# Altium footprint library recall.PcbLib: 36 footprints (part 3 of 3)
Each footprint in its own frame and in the unit in brackets; x right, y up, seen from the top. Pads: shape width x height; smd on the part's side, far side on the other; paste and mask are expansions set on the pad; w line width, h text height; cw(c..) or ccw(c..) is an arc to the next point about the centre after c.
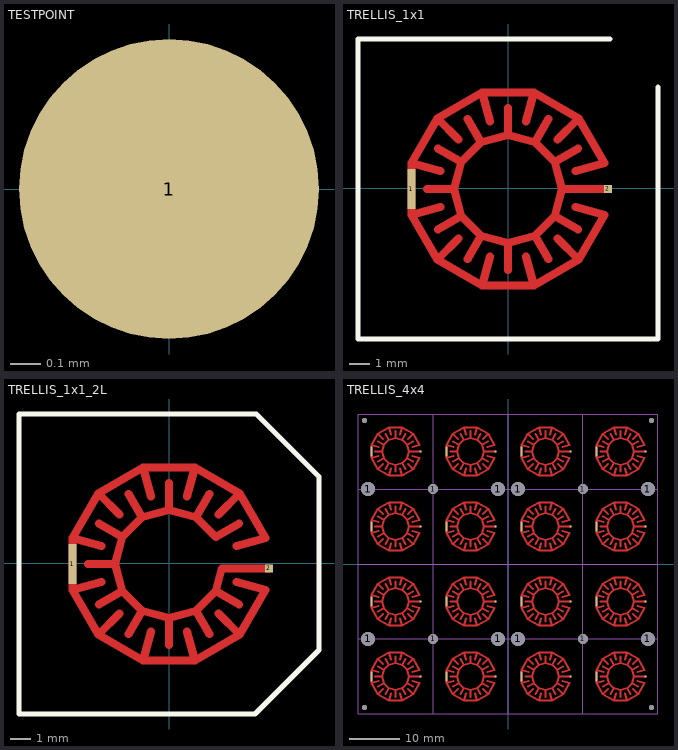
[diagram p2: the footprints below, top view; thin cyan lines are the x and y axes]

## TESTPOINT [mm]
pads (1):
  round 1 smd: 1(0,0)

## TRELLIS_1x1 [mm]
pads (2):
  rect 0.4x2 smd: 1(-4.851,-0.04)
  rect 0.4x0.4 smd: 2(4.979,-0.03)
Top Layer:
  lines w0.4: -4.071,-0.03 -2.721,-0.03 ; -3.528,-2.055 -2.359,-1.38 ; -3.528,1.995 -2.359,1.32 ; -3.402,-0.936 -4.851,-1.324 ; -3.402,0.876 -4.851,1.264 ; -2.496,-2.505 -3.557,-3.565 ; -2.496,2.445 -3.557,3.506 ; -2.046,-3.537 -1.371,-2.368 ; -2.046,3.478 -1.371,2.308 ; -0.927,-3.41 -1.315,-4.86 ; -0.927,3.351 -1.315,4.8 ; -0.021,-4.08 -0.021,-2.73 ; -0.021,4.02 -0.021,2.67 ; 0.885,-3.41 1.273,-4.86 ; 0.885,3.351 1.273,4.8 ; 2.004,-3.537 1.329,-2.368 ; 2.004,3.478 1.329,2.308 ; 2.454,-2.505 3.515,-3.565 ; 2.454,2.445 3.515,3.506 ; 3.36,-0.936 4.809,-1.324 3.515,-3.565 ; 3.36,0.876 4.809,1.264 3.515,3.506 ; 3.486,-2.055 2.317,-1.38 ; 3.486,1.995 2.317,1.32 ; 4.929,-0.03 2.679,-0.03 ; -4.851,-1.324 -3.557,-3.565 ; -4.851,-1.324 -4.851,1.264 ; -4.851,1.264 -3.557,3.506 ; -3.557,-3.565 -1.315,-4.86 ; -3.557,3.506 -1.315,4.8 ; -2.721,-0.03 -2.359,-1.38 ; -2.721,-0.03 -2.359,1.32 ; -2.359,-1.38 -1.371,-2.368 ; -2.359,1.32 -1.371,2.308 ; -1.371,-2.368 -0.021,-2.73 ; -1.371,2.308 -0.021,2.67 ; -1.315,-4.86 1.273,-4.86 ; -1.315,4.8 1.273,4.8 ; -0.021,-2.73 1.329,-2.368 ; -0.021,2.67 1.329,2.308 ; 1.273,-4.86 3.515,-3.565 ; 1.273,4.8 3.515,3.506 ; 1.329,-2.368 2.317,-1.38 ; 1.329,2.308 2.317,1.32 ; 2.317,-1.38 2.679,-0.03 ; 2.317,1.32 2.679,-0.03
Top Overlay:
  lines w0.254: 5.077,7.47 -7.521,7.47 -7.521,-7.53 7.479,-7.53 7.479,5.069
Top Solder:
  circle w3: c0,0 r3.8
3D body "Trellis_1x1.step": height 11.55, standoff -0.05, extent -7.518,-7.544 7.482,7.456

## TRELLIS_1x1_2L [mil]
pads (2):
  rect 15.75x78.74 smd: 1(-190.98,-1.57)
  rect 15.75x15.75 smd: 2(196,-10)
Top Layer:
  lines w15.75: -160.28,-1.17 -107.13,-1.17 ; -138.91,-80.9 -92.88,-54.32 ; -138.91,78.55 -92.88,51.98 ; -133.93,-36.84 -190.97,-52.12 ; -133.93,34.49 -190.97,49.78 ; -98.26,-98.61 -140.02,-140.37 ; -98.26,96.26 -140.02,138.02 ; -80.55,-139.26 -53.98,-93.23 ; -80.55,136.91 -53.98,90.88 ; -36.49,-134.27 -51.78,-191.32 ; -36.49,131.93 -51.78,188.97 ; -0.83,-160.62 -0.83,-107.47 ; -0.83,158.28 -0.83,105.13 ; 34.84,-134.27 50.12,-191.32 ; 34.84,131.93 50.12,188.97 ; 78.9,-139.26 52.32,-93.23 ; 78.9,136.91 52.32,90.88 ; 96.61,-98.61 138.37,-140.37 ; 96.61,96.26 138.37,138.02 ; 132.27,-36.84 189.32,-52.12 138.37,-140.37 ; 132.27,34.49 189.32,49.78 138.37,138.02 ; 137.26,-80.9 91.23,-54.32 ; 137.26,78.55 91.23,51.98 52.32,90.88 ; 195,-10 103.1,-10 91.23,-54.32 ; -190.97,-52.12 -190.97,49.78 ; -190.97,-52.12 -140.02,-140.37 ; -190.97,49.78 -140.02,138.02 ; -140.02,-140.37 -51.78,-191.32 ; -140.02,138.02 -51.78,188.97 ; -107.13,-1.17 -92.88,51.98 ; -107.13,-1.17 -92.88,-54.32 ; -92.88,-54.32 -53.98,-93.23 ; -92.88,51.98 -53.98,90.88 ; -53.98,-93.23 -0.83,-107.47 ; -53.98,90.88 -0.83,105.13 ; -51.78,-191.32 50.12,-191.32 ; -51.78,188.97 50.12,188.97 ; -0.83,-107.47 52.32,-93.23 ; -0.83,105.13 52.32,90.88 ; 50.12,-191.32 138.37,-140.37 ; 50.12,188.97 138.37,138.02 ; 52.32,-93.23 91.23,-54.32
Top Overlay:
  lines w10: -296.1,-296.45 -296.1,294.1 170.9,294.1 294.45,170.55 294.45,-170.55 168.55,-296.45 -296.1,-296.45
Top Solder:
  lines w118.11: 122.55,85.81 ccw(c0,0) 136.68,-60.85
3D body "Trellis_1x1.step": height 454.72, standoff -1.97, extent -296,-297 294.55,293.56

## TRELLIS_4x4 [mm]
pads (48):
  round 1 hole 1: 1(-28.7,-28.7) 1(-28.7,28.7) 1(28.7,-28.7) 1(28.7,28.7)
  round 2.8 hole 2.8: 1(-28,-15) 1(-28,15) 1(-2,-15) 1(-2,15) 1(2,-15) 1(2,15) 1(28,-15) 1(28,15)
  round 2 hole 2: 1(-15,-15) 1(-15,15) 1(15,-15) 1(15,15)
  rect 0.4x0.4 smd: A1(-17.5,-22.5) A2(-2.5,-22.5) A3(12.5,-22.5) A4(27.5,-22.5) A5(-17.5,-7.5) A6(-2.5,-7.5) A7(12.5,-7.5) A8(27.5,-7.5) A9(-17.5,7.5) A10(-2.5,7.5) A11(12.5,7.5) A12(27.5,7.5) A13(-17.5,22.5) A14(-2.5,22.5) A15(12.5,22.5) A16(27.5,22.5)
  rect 0.4x2 smd: B1(-27.33,-22.51) B2(-12.33,-22.51) B3(2.67,-22.51) B4(17.67,-22.51) B5(-27.33,-7.51) B6(-12.33,-7.51) B7(2.67,-7.51) B8(17.67,-7.51) B9(-27.33,7.49) B10(-12.33,7.49) B11(2.67,7.49) B12(17.67,7.49) B13(-27.33,22.49) B14(-12.33,22.49) B15(2.67,22.49) B16(17.67,22.49)
Top Layer:
  lines w0.4: -26.55,-22.5 -25.2,-22.5 ; -26.55,-7.5 -25.2,-7.5 ; -26.55,7.5 -25.2,7.5 ; -26.55,22.5 -25.2,22.5 ; -26.007,-24.525 -24.838,-23.85 ; -26.007,-20.475 -24.838,-21.15 ; -26.007,-9.525 -24.838,-8.85 ; -26.007,-5.475 -24.838,-6.15 ; -26.007,5.475 -24.838,6.15 ; -26.007,9.525 -24.838,8.85 ; -26.007,20.475 -24.838,21.15 ; -26.007,24.525 -24.838,23.85 ; -25.881,-23.406 -27.33,-23.794 ; -25.881,-21.594 -27.33,-21.206 ; -25.881,-8.406 -27.33,-8.794 ; -25.881,-6.594 -27.33,-6.206 ; -25.881,6.594 -27.33,6.206 ; -25.881,8.406 -27.33,8.794 ; -25.881,21.594 -27.33,21.206 ; -25.881,23.406 -27.33,23.794 ; -24.975,-24.975 -26.036,-26.036 ; -24.975,-20.025 -26.036,-18.964 ; -24.975,-9.975 -26.036,-11.036 ; -24.975,-5.025 -26.036,-3.964 ; -24.975,5.025 -26.036,3.964 ; -24.975,9.975 -26.036,11.036 ; -24.975,20.025 -26.036,18.964 ; -24.975,24.975 -26.036,26.036 ; -24.525,-26.007 -23.85,-24.838 ; -24.525,-18.993 -23.85,-20.162 ; -24.525,-11.007 -23.85,-9.838 ; -24.525,-3.993 -23.85,-5.162 ; -24.525,3.993 -23.85,5.162 ; -24.525,11.007 -23.85,9.838 ; -24.525,18.993 -23.85,20.162 ; -24.525,26.007 -23.85,24.838 ; -23.406,-25.881 -23.794,-27.33 ; -23.406,-19.119 -23.794,-17.67 ; -23.406,-10.881 -23.794,-12.33 ; -23.406,-4.119 -23.794,-2.67 ; -23.406,4.119 -23.794,2.67 ; -23.406,10.881 -23.794,12.33 ; -23.406,19.119 -23.794,17.67 ; -23.406,25.881 -23.794,27.33 ; -22.5,-26.55 -22.5,-25.2 ; -22.5,-18.45 -22.5,-19.8 ; -22.5,-11.55 -22.5,-10.2 ; -22.5,-3.45 -22.5,-4.8 ; -22.5,3.45 -22.5,4.8 ; -22.5,11.55 -22.5,10.2 ; -22.5,18.45 -22.5,19.8 ; -22.5,26.55 -22.5,25.2 ; -21.594,-25.881 -21.206,-27.33 ; -21.594,-19.119 -21.206,-17.67 ; -21.594,-10.881 -21.206,-12.33 ; -21.594,-4.119 -21.206,-2.67 ; -21.594,4.119 -21.206,2.67 ; -21.594,10.881 -21.206,12.33 ; -21.594,19.119 -21.206,17.67 ; -21.594,25.881 -21.206,27.33 ; -20.475,-26.007 -21.15,-24.838 ; -20.475,-18.993 -21.15,-20.162 ; -20.475,-11.007 -21.15,-9.838 ; -20.475,-3.993 -21.15,-5.162 ; -20.475,3.993 -21.15,5.162 ; -20.475,11.007 -21.15,9.838 ; -20.475,18.993 -21.15,20.162 ; -20.475,26.007 -21.15,24.838 ; -20.025,-24.975 -18.964,-26.036 ; -20.025,-20.025 -18.964,-18.964 ; -20.025,-9.975 -18.964,-11.036 ; -20.025,-5.025 -18.964,-3.964 ; -20.025,5.025 -18.964,3.964 ; -20.025,9.975 -18.964,11.036 ; -20.025,20.025 -18.964,18.964 ; -20.025,24.975 -18.964,26.036 ; -19.119,-23.406 -17.67,-23.794 -18.964,-26.036 ; -19.119,-21.594 -17.67,-21.206 -18.964,-18.964 ; -19.119,-8.406 -17.67,-8.794 -18.964,-11.036 ; -19.119,-6.594 -17.67,-6.206 -18.964,-3.964 ; -19.119,6.594 -17.67,6.206 -18.964,3.964 ; -19.119,8.406 -17.67,8.794 -18.964,11.036 ; -19.119,21.594 -17.67,21.206 -18.964,18.964 ; -19.119,23.406 -17.67,23.794 -18.964,26.036 ; -18.993,-24.525 -20.162,-23.85 ; -18.993,-20.475 -20.162,-21.15 ; -18.993,-9.525 -20.162,-8.85 ; -18.993,-5.475 -20.162,-6.15 ; -18.993,5.475 -20.162,6.15 ; -18.993,9.525 -20.162,8.85 ; -18.993,20.475 -20.162,21.15 ; -18.993,24.525 -20.162,23.85 ; -17.55,-22.5 -19.8,-22.5 ; -17.55,-7.5 -19.8,-7.5 ; -17.55,7.5 -19.8,7.5 ; -17.55,22.5 -19.8,22.5 ; -11.55,-22.5 -10.2,-22.5 ; -11.55,-7.5 -10.2,-7.5 ; -11.55,7.5 -10.2,7.5 ; -11.55,22.5 -10.2,22.5 ; -11.007,-24.525 -9.838,-23.85 ; -11.007,-20.475 -9.838,-21.15 ; -11.007,-9.525 -9.838,-8.85 ; -11.007,-5.475 -9.838,-6.15 ; -11.007,5.475 -9.838,6.15 ; -11.007,9.525 -9.838,8.85 ; -11.007,20.475 -9.838,21.15 ; -11.007,24.525 -9.838,23.85 ; -10.881,-23.406 -12.33,-23.794 ; -10.881,-21.594 -12.33,-21.206 ; -10.881,-8.406 -12.33,-8.794 ; -10.881,-6.594 -12.33,-6.206 ; -10.881,6.594 -12.33,6.206 ; -10.881,8.406 -12.33,8.794 ; -10.881,21.594 -12.33,21.206 ; -10.881,23.406 -12.33,23.794 ; -9.975,-24.975 -11.036,-26.036 ; -9.975,-20.025 -11.036,-18.964 ; -9.975,-9.975 -11.036,-11.036 ; -9.975,-5.025 -11.036,-3.964 ; -9.975,5.025 -11.036,3.964 ; -9.975,9.975 -11.036,11.036 ; -9.975,20.025 -11.036,18.964 ; -9.975,24.975 -11.036,26.036 ; -9.525,-26.007 -8.85,-24.838 ; -9.525,-18.993 -8.85,-20.162 ; -9.525,-11.007 -8.85,-9.838 ; -9.525,-3.993 -8.85,-5.162 ; -9.525,3.993 -8.85,5.162 ; -9.525,11.007 -8.85,9.838 ; -9.525,18.993 -8.85,20.162 ; -9.525,26.007 -8.85,24.838 ; -8.406,-25.881 -8.794,-27.33 ; -8.406,-19.119 -8.794,-17.67 ; -8.406,-10.881 -8.794,-12.33 ; -8.406,-4.119 -8.794,-2.67 ; -8.406,4.119 -8.794,2.67 ; -8.406,10.881 -8.794,12.33 ; -8.406,19.119 -8.794,17.67 ; -8.406,25.881 -8.794,27.33 ; -7.5,-26.55 -7.5,-25.2 ; -7.5,-18.45 -7.5,-19.8 ; -7.5,-11.55 -7.5,-10.2 ; -7.5,-3.45 -7.5,-4.8 ; -7.5,3.45 -7.5,4.8 ; -7.5,11.55 -7.5,10.2 ; -7.5,18.45 -7.5,19.8 ; -7.5,26.55 -7.5,25.2 ; -6.594,-25.881 -6.206,-27.33 ; -6.594,-19.119 -6.206,-17.67 ; -6.594,-10.881 -6.206,-12.33 ; -6.594,-4.119 -6.206,-2.67 ; -6.594,4.119 -6.206,2.67 ; -6.594,10.881 -6.206,12.33 ; -6.594,19.119 -6.206,17.67 ; -6.594,25.881 -6.206,27.33 ; -5.475,-26.007 -6.15,-24.838 ; -5.475,-18.993 -6.15,-20.162 ; -5.475,-11.007 -6.15,-9.838 ; -5.475,-3.993 -6.15,-5.162 ; -5.475,3.993 -6.15,5.162 ; -5.475,11.007 -6.15,9.838 ; -5.475,18.993 -6.15,20.162 ; -5.475,26.007 -6.15,24.838 ; -5.025,-24.975 -3.964,-26.036 ; -5.025,-20.025 -3.964,-18.964 ; -5.025,-9.975 -3.964,-11.036 ; -5.025,-5.025 -3.964,-3.964 ; -5.025,5.025 -3.964,3.964 ; -5.025,9.975 -3.964,11.036 ; -5.025,20.025 -3.964,18.964 ; -5.025,24.975 -3.964,26.036 ; -4.119,-23.406 -2.67,-23.794 -3.964,-26.036 ; -4.119,-21.594 -2.67,-21.206 -3.964,-18.964 ; -4.119,-8.406 -2.67,-8.794 -3.964,-11.036 ; -4.119,-6.594 -2.67,-6.206 -3.964,-3.964 ; -4.119,6.594 -2.67,6.206 -3.964,3.964 ; -4.119,8.406 -2.67,8.794 -3.964,11.036 ; -4.119,21.594 -2.67,21.206 -3.964,18.964 ; -4.119,23.406 -2.67,23.794 -3.964,26.036 ; -3.993,-24.525 -5.162,-23.85 ; -3.993,-20.475 -5.162,-21.15 ; -3.993,-9.525 -5.162,-8.85 ; -3.993,-5.475 -5.162,-6.15 ; -3.993,5.475 -5.162,6.15 ; -3.993,9.525 -5.162,8.85 ; -3.993,20.475 -5.162,21.15 ; -3.993,24.525 -5.162,23.85 ; -2.55,-22.5 -4.8,-22.5 ; -2.55,-7.5 -4.8,-7.5 ; -2.55,7.5 -4.8,7.5 ; -2.55,22.5 -4.8,22.5 ; 3.45,-22.5 4.8,-22.5 ; 3.45,-7.5 4.8,-7.5 ; 3.45,7.5 4.8,7.5 ; 3.45,22.5 4.8,22.5 ; 3.993,-24.525 5.162,-23.85 ; 3.993,-20.475 5.162,-21.15 ; 3.993,-9.525 5.162,-8.85 ; 3.993,-5.475 5.162,-6.15 ; 3.993,5.475 5.162,6.15 ; 3.993,9.525 5.162,8.85 ; 3.993,20.475 5.162,21.15 ; 3.993,24.525 5.162,23.85 ; 4.119,-23.406 2.67,-23.794 ; 4.119,-21.594 2.67,-21.206 ; 4.119,-8.406 2.67,-8.794 ; 4.119,-6.594 2.67,-6.206 ; 4.119,6.594 2.67,6.206 ; 4.119,8.406 2.67,8.794 ; 4.119,21.594 2.67,21.206 ; 4.119,23.406 2.67,23.794 ; 5.025,-24.975 3.964,-26.036 ; 5.025,-20.025 3.964,-18.964 ; 5.025,-9.975 3.964,-11.036 ; 5.025,-5.025 3.964,-3.964 ; 5.025,5.025 3.964,3.964 ; 5.025,9.975 3.964,11.036 ; 5.025,20.025 3.964,18.964 ; 5.025,24.975 3.964,26.036 ; 5.475,-26.007 6.15,-24.838 ; 5.475,-18.993 6.15,-20.162 ; 5.475,-11.007 6.15,-9.838 ; 5.475,-3.993 6.15,-5.162 ; 5.475,3.993 6.15,5.162 ; 5.475,11.007 6.15,9.838 ; 5.475,18.993 6.15,20.162 ; 5.475,26.007 6.15,24.838 ; 6.594,-25.881 6.206,-27.33 ; 6.594,-19.119 6.206,-17.67 ; 6.594,-10.881 6.206,-12.33 ; 6.594,-4.119 6.206,-2.67 ; 6.594,4.119 6.206,2.67 ; 6.594,10.881 6.206,12.33 ; 6.594,19.119 6.206,17.67 ; 6.594,25.881 6.206,27.33 ; 7.5,-26.55 7.5,-25.2 ; 7.5,-18.45 7.5,-19.8 ; 7.5,-11.55 7.5,-10.2 ; 7.5,-3.45 7.5,-4.8 ; 7.5,3.45 7.5,4.8 ; 7.5,11.55 7.5,10.2 ; 7.5,18.45 7.5,19.8 ; 7.5,26.55 7.5,25.2 ; 8.406,-25.881 8.794,-27.33 ; 8.406,-19.119 8.794,-17.67 ; 8.406,-10.881 8.794,-12.33 ; 8.406,-4.119 8.794,-2.67 ; 8.406,4.119 8.794,2.67 ; 8.406,10.881 8.794,12.33 ; 8.406,19.119 8.794,17.67 ; 8.406,25.881 8.794,27.33 ; 9.525,-26.007 8.85,-24.838 ; 9.525,-18.993 8.85,-20.162 ; 9.525,-11.007 8.85,-9.838 ; 9.525,-3.993 8.85,-5.162 ; 9.525,3.993 8.85,5.162 ; 9.525,11.007 8.85,9.838 ; 9.525,18.993 8.85,20.162 ; 9.525,26.007 8.85,24.838 ; 9.975,-24.975 11.036,-26.036 ; 9.975,-20.025 11.036,-18.964 ; 9.975,-9.975 11.036,-11.036 ; 9.975,-5.025 11.036,-3.964 ; 9.975,5.025 11.036,3.964 ; 9.975,9.975 11.036,11.036 ; 9.975,20.025 11.036,18.964 ; 9.975,24.975 11.036,26.036 ; 10.881,-23.406 12.33,-23.794 11.036,-26.036 ; 10.881,-21.594 12.33,-21.206 11.036,-18.964 ; 10.881,-8.406 12.33,-8.794 11.036,-11.036 ; 10.881,-6.594 12.33,-6.206 11.036,-3.964 ; 10.881,6.594 12.33,6.206 11.036,3.964 ; 10.881,8.406 12.33,8.794 11.036,11.036 ; 10.881,21.594 12.33,21.206 11.036,18.964 ; 10.881,23.406 12.33,23.794 11.036,26.036 ; 11.007,-24.525 9.838,-23.85 ; 11.007,-20.475 9.838,-21.15 ; 11.007,-9.525 9.838,-8.85 ; 11.007,-5.475 9.838,-6.15 ; 11.007,5.475 9.838,6.15 ; 11.007,9.525 9.838,8.85 ; 11.007,20.475 9.838,21.15 ; 11.007,24.525 9.838,23.85 ; 12.45,-22.5 10.2,-22.5 ; 12.45,-7.5 10.2,-7.5 ; 12.45,7.5 10.2,7.5 ; 12.45,22.5 10.2,22.5 ; 18.45,-22.5 19.8,-22.5 ; 18.45,-7.5 19.8,-7.5 ; 18.45,7.5 19.8,7.5 ; 18.45,22.5 19.8,22.5 ; 18.993,-24.525 20.162,-23.85 ; 18.993,-20.475 20.162,-21.15 ; 18.993,-9.525 20.162,-8.85 ; 18.993,-5.475 20.162,-6.15 ; 18.993,5.475 20.162,6.15 ; 18.993,9.525 20.162,8.85 ; 18.993,20.475 20.162,21.15 ; 18.993,24.525 20.162,23.85 ; 19.119,-23.406 17.67,-23.794 ; 19.119,-21.594 17.67,-21.206 ; 19.119,-8.406 17.67,-8.794 ; 19.119,-6.594 17.67,-6.206 ; 19.119,6.594 17.67,6.206 ; 19.119,8.406 17.67,8.794 ; 19.119,21.594 17.67,21.206 ; 19.119,23.406 17.67,23.794 ; 20.025,-24.975 18.964,-26.036 ; 20.025,-20.025 18.964,-18.964 ; 20.025,-9.975 18.964,-11.036 ; 20.025,-5.025 18.964,-3.964 ; 20.025,5.025 18.964,3.964 ; 20.025,9.975 18.964,11.036 ; 20.025,20.025 18.964,18.964 ; 20.025,24.975 18.964,26.036 ; 20.475,-26.007 21.15,-24.838 ; 20.475,-18.993 21.15,-20.162 ; 20.475,-11.007 21.15,-9.838 ; 20.475,-3.993 21.15,-5.162 ; 20.475,3.993 21.15,5.162 ; 20.475,11.007 21.15,9.838 ; 20.475,18.993 21.15,20.162 ; 20.475,26.007 21.15,24.838 ; 21.594,-25.881 21.206,-27.33 ; 21.594,-19.119 21.206,-17.67 ; 21.594,-10.881 21.206,-12.33 ; 21.594,-4.119 21.206,-2.67 ; 21.594,4.119 21.206,2.67 ; 21.594,10.881 21.206,12.33 ; 21.594,19.119 21.206,17.67 ; 21.594,25.881 21.206,27.33 ; 22.5,-26.55 22.5,-25.2 ; 22.5,-18.45 22.5,-19.8 ; 22.5,-11.55 22.5,-10.2 ; 22.5,-3.45 22.5,-4.8 ; 22.5,3.45 22.5,4.8 ; 22.5,11.55 22.5,10.2 ; 22.5,18.45 22.5,19.8 ; 22.5,26.55 22.5,25.2 ; 23.406,-25.881 23.794,-27.33 ; 23.406,-19.119 23.794,-17.67 ; 23.406,-10.881 23.794,-12.33 ; 23.406,-4.119 23.794,-2.67 ; 23.406,4.119 23.794,2.67 ; 23.406,10.881 23.794,12.33 ; 23.406,19.119 23.794,17.67 ; 23.406,25.881 23.794,27.33 ; 24.525,-26.007 23.85,-24.838 ; 24.525,-18.993 23.85,-20.162 ; 24.525,-11.007 23.85,-9.838 ; 24.525,-3.993 23.85,-5.162 ; 24.525,3.993 23.85,5.162 ; 24.525,11.007 23.85,9.838 ; 24.525,18.993 23.85,20.162 ; 24.525,26.007 23.85,24.838 ; 24.975,-24.975 26.036,-26.036 ; 24.975,-20.025 26.036,-18.964 ; 24.975,-9.975 26.036,-11.036 ; 24.975,-5.025 26.036,-3.964 ; 24.975,5.025 26.036,3.964 ; 24.975,9.975 26.036,11.036 ; 24.975,20.025 26.036,18.964 ; 24.975,24.975 26.036,26.036 ; 25.881,-23.406 27.33,-23.794 26.036,-26.036 ; 25.881,-21.594 27.33,-21.206 26.036,-18.964 ; 25.881,-8.406 27.33,-8.794 26.036,-11.036 ; 25.881,-6.594 27.33,-6.206 26.036,-3.964 ; 25.881,6.594 27.33,6.206 26.036,3.964 ; 25.881,8.406 27.33,8.794 26.036,11.036 ; 25.881,21.594 27.33,21.206 26.036,18.964 ; 25.881,23.406 27.33,23.794 26.036,26.036 ; 26.007,-24.525 24.838,-23.85 ; 26.007,-20.475 24.838,-21.15 ; 26.007,-9.525 24.838,-8.85 ; 26.007,-5.475 24.838,-6.15 ; 26.007,5.475 24.838,6.15 ; 26.007,9.525 24.838,8.85 ; 26.007,20.475 24.838,21.15 ; 26.007,24.525 24.838,23.85 ; 27.45,-22.5 25.2,-22.5 ; 27.45,-7.5 25.2,-7.5 ; 27.45,7.5 25.2,7.5 ; 27.45,22.5 25.2,22.5 ; -27.33,-23.794 -27.33,-21.206 ; -27.33,-23.794 -26.036,-26.036 ; -27.33,-21.206 -26.036,-18.964 ; -27.33,-8.794 -27.33,-6.206 ; -27.33,-8.794 -26.036,-11.036 ; -27.33,-6.206 -26.036,-3.964 ; -27.33,6.206 -27.33,8.794 ; -27.33,6.206 -26.036,3.964 ; -27.33,8.794 -26.036,11.036 ; -27.33,21.206 -27.33,23.794 ; -27.33,21.206 -26.036,18.964 ; -27.33,23.794 -26.036,26.036 ; -26.036,-26.036 -23.794,-27.33 ; -26.036,-18.964 -23.794,-17.67 ; -26.036,-11.036 -23.794,-12.33 ; -26.036,-3.964 -23.794,-2.67 ; -26.036,3.964 -23.794,2.67 ; -26.036,11.036 -23.794,12.33 ; -26.036,18.964 -23.794,17.67 ; -26.036,26.036 -23.794,27.33 ; -25.2,-22.5 -24.838,-21.15 ; -25.2,-22.5 -24.838,-23.85 ; -25.2,-7.5 -24.838,-6.15 ; -25.2,-7.5 -24.838,-8.85 ; -25.2,7.5 -24.838,8.85 ; -25.2,7.5 -24.838,6.15 ; -25.2,22.5 -24.838,23.85 ; -25.2,22.5 -24.838,21.15 ; -24.838,-23.85 -23.85,-24.838 ; -24.838,-21.15 -23.85,-20.162 ; -24.838,-8.85 -23.85,-9.838 ; -24.838,-6.15 -23.85,-5.162 ; -24.838,6.15 -23.85,5.162 ; -24.838,8.85 -23.85,9.838 ; -24.838,21.15 -23.85,20.162 ; -24.838,23.85 -23.85,24.838 ; -23.85,-24.838 -22.5,-25.2 ; -23.85,-20.162 -22.5,-19.8 ; -23.85,-9.838 -22.5,-10.2 ; -23.85,-5.162 -22.5,-4.8 ; -23.85,5.162 -22.5,4.8 ; -23.85,9.838 -22.5,10.2 ; -23.85,20.162 -22.5,19.8 ; -23.85,24.838 -22.5,25.2 ; -23.794,-27.33 -21.206,-27.33 ; -23.794,-17.67 -21.206,-17.67 ; -23.794,-12.33 -21.206,-12.33 ; -23.794,-2.67 -21.206,-2.67 ; -23.794,2.67 -21.206,2.67 ; -23.794,12.33 -21.206,12.33 ; -23.794,17.67 -21.206,17.67 ; -23.794,27.33 -21.206,27.33 ; -22.5,-25.2 -21.15,-24.838 ; -22.5,-19.8 -21.15,-20.162 ; -22.5,-10.2 -21.15,-9.838 ; -22.5,-4.8 -21.15,-5.162 ; -22.5,4.8 -21.15,5.162 ; -22.5,10.2 -21.15,9.838 ; -22.5,19.8 -21.15,20.162 ; -22.5,25.2 -21.15,24.838 ; -21.206,-27.33 -18.964,-26.036 ; -21.206,-17.67 -18.964,-18.964 ; -21.206,-12.33 -18.964,-11.036 ; -21.206,-2.67 -18.964,-3.964 ; -21.206,2.67 -18.964,3.964 ; -21.206,12.33 -18.964,11.036 ; -21.206,17.67 -18.964,18.964 ; -21.206,27.33 -18.964,26.036 ; -21.15,-24.838 -20.162,-23.85 ; -21.15,-20.162 -20.162,-21.15 ; -21.15,-9.838 -20.162,-8.85 ; -21.15,-5.162 -20.162,-6.15 ; -21.15,5.162 -20.162,6.15 ; -21.15,9.838 -20.162,8.85 ; -21.15,20.162 -20.162,21.15 ; -21.15,24.838 -20.162,23.85 ; -20.162,-23.85 -19.8,-22.5 ; -20.162,-21.15 -19.8,-22.5 ; -20.162,-8.85 -19.8,-7.5 ; -20.162,-6.15 -19.8,-7.5 ; -20.162,6.15 -19.8,7.5 ; -20.162,8.85 -19.8,7.5 ; -20.162,21.15 -19.8,22.5 ; -20.162,23.85 -19.8,22.5 ; -12.33,-23.794 -12.33,-21.206 ; -12.33,-23.794 -11.036,-26.036 ; -12.33,-21.206 -11.036,-18.964 ; -12.33,-8.794 -12.33,-6.206 ; -12.33,-8.794 -11.036,-11.036 ; -12.33,-6.206 -11.036,-3.964 ; -12.33,6.206 -12.33,8.794 ; -12.33,6.206 -11.036,3.964 ; -12.33,8.794 -11.036,11.036 ; -12.33,21.206 -12.33,23.794 ; -12.33,21.206 -11.036,18.964 ; -12.33,23.794 -11.036,26.036 ; -11.036,-26.036 -8.794,-27.33 ; -11.036,-18.964 -8.794,-17.67 ; -11.036,-11.036 -8.794,-12.33 ; -11.036,-3.964 -8.794,-2.67 ; -11.036,3.964 -8.794,2.67 ; -11.036,11.036 -8.794,12.33 ; -11.036,18.964 -8.794,17.67 ; -11.036,26.036 -8.794,27.33 ; -10.2,-22.5 -9.838,-21.15 ; -10.2,-22.5 -9.838,-23.85 ; -10.2,-7.5 -9.838,-6.15 ; -10.2,-7.5 -9.838,-8.85 ; -10.2,7.5 -9.838,8.85 ; -10.2,7.5 -9.838,6.15 ; -10.2,22.5 -9.838,23.85 ; -10.2,22.5 -9.838,21.15 ; -9.838,-23.85 -8.85,-24.838 ; -9.838,-21.15 -8.85,-20.162 ; -9.838,-8.85 -8.85,-9.838 ; -9.838,-6.15 -8.85,-5.162 ; -9.838,6.15 -8.85,5.162 ; -9.838,8.85 -8.85,9.838 ; -9.838,21.15 -8.85,20.162 ; -9.838,23.85 -8.85,24.838 ; -8.85,-24.838 -7.5,-25.2 ; -8.85,-20.162 -7.5,-19.8 ; -8.85,-9.838 -7.5,-10.2 ; -8.85,-5.162 -7.5,-4.8 ; -8.85,5.162 -7.5,4.8 ; -8.85,9.838 -7.5,10.2 ; -8.85,20.162 -7.5,19.8 ; -8.85,24.838 -7.5,25.2 ; -8.794,-27.33 -6.206,-27.33 ; -8.794,-17.67 -6.206,-17.67 ; -8.794,-12.33 -6.206,-12.33 ; -8.794,-2.67 -6.206,-2.67 ; -8.794,2.67 -6.206,2.67 ; -8.794,12.33 -6.206,12.33 ; -8.794,17.67 -6.206,17.67 ; -8.794,27.33 -6.206,27.33 ; -7.5,-25.2 -6.15,-24.838 ; -7.5,-19.8 -6.15,-20.162 ; -7.5,-10.2 -6.15,-9.838 ; -7.5,-4.8 -6.15,-5.162 ; -7.5,4.8 -6.15,5.162 ; -7.5,10.2 -6.15,9.838 ; -7.5,19.8 -6.15,20.162 ; -7.5,25.2 -6.15,24.838 ; -6.206,-27.33 -3.964,-26.036 ; -6.206,-17.67 -3.964,-18.964 ; -6.206,-12.33 -3.964,-11.036 ; -6.206,-2.67 -3.964,-3.964 ; -6.206,2.67 -3.964,3.964 ; -6.206,12.33 -3.964,11.036 ; -6.206,17.67 -3.964,18.964 ; -6.206,27.33 -3.964,26.036 ; -6.15,-24.838 -5.162,-23.85 ; -6.15,-20.162 -5.162,-21.15 ; -6.15,-9.838 -5.162,-8.85 ; -6.15,-5.162 -5.162,-6.15 ; -6.15,5.162 -5.162,6.15 ; -6.15,9.838 -5.162,8.85 ; -6.15,20.162 -5.162,21.15 ; -6.15,24.838 -5.162,23.85 ; -5.162,-23.85 -4.8,-22.5 ; -5.162,-21.15 -4.8,-22.5 ; -5.162,-8.85 -4.8,-7.5 ; -5.162,-6.15 -4.8,-7.5 ; -5.162,6.15 -4.8,7.5 ; -5.162,8.85 -4.8,7.5 ; -5.162,21.15 -4.8,22.5 ; -5.162,23.85 -4.8,22.5 ; 2.67,-23.794 2.67,-21.206 ; 2.67,-23.794 3.964,-26.036 ; 2.67,-21.206 3.964,-18.964 ; 2.67,-8.794 2.67,-6.206 ; 2.67,-8.794 3.964,-11.036 ; 2.67,-6.206 3.964,-3.964 ; 2.67,6.206 2.67,8.794 ; 2.67,6.206 3.964,3.964 ; 2.67,8.794 3.964,11.036 ; 2.67,21.206 2.67,23.794 ; 2.67,21.206 3.964,18.964 ; 2.67,23.794 3.964,26.036 ; 3.964,-26.036 6.206,-27.33 ; 3.964,-18.964 6.206,-17.67 ; 3.964,-11.036 6.206,-12.33 ; 3.964,-3.964 6.206,-2.67 ; 3.964,3.964 6.206,2.67 ; 3.964,11.036 6.206,12.33 ; 3.964,18.964 6.206,17.67 ; 3.964,26.036 6.206,27.33 ; 4.8,-22.5 5.162,-21.15 ; 4.8,-22.5 5.162,-23.85 ; 4.8,-7.5 5.162,-6.15 ; 4.8,-7.5 5.162,-8.85 ; 4.8,7.5 5.162,8.85 ; 4.8,7.5 5.162,6.15 ; 4.8,22.5 5.162,23.85 ; 4.8,22.5 5.162,21.15 ; 5.162,-23.85 6.15,-24.838 ; 5.162,-21.15 6.15,-20.162 ; 5.162,-8.85 6.15,-9.838 ; 5.162,-6.15 6.15,-5.162 ; 5.162,6.15 6.15,5.162 ; 5.162,8.85 6.15,9.838 ; 5.162,21.15 6.15,20.162 ; 5.162,23.85 6.15,24.838 ; 6.15,-24.838 7.5,-25.2 ; 6.15,-20.162 7.5,-19.8 ; 6.15,-9.838 7.5,-10.2 ; 6.15,-5.162 7.5,-4.8 ; 6.15,5.162 7.5,4.8 ; 6.15,9.838 7.5,10.2 ; 6.15,20.162 7.5,19.8 ; 6.15,24.838 7.5,25.2 ; 6.206,-27.33 8.794,-27.33 ; 6.206,-17.67 8.794,-17.67 ; 6.206,-12.33 8.794,-12.33 ; 6.206,-2.67 8.794,-2.67 ; 6.206,2.67 8.794,2.67 ; 6.206,12.33 8.794,12.33 ; 6.206,17.67 8.794,17.67 ; 6.206,27.33 8.794,27.33 ; 7.5,-25.2 8.85,-24.838 ; 7.5,-19.8 8.85,-20.162 ; 7.5,-10.2 8.85,-9.838 ; 7.5,-4.8 8.85,-5.162 ; 7.5,4.8 8.85,5.162 ; 7.5,10.2 8.85,9.838 ; 7.5,19.8 8.85,20.162 ; 7.5,25.2 8.85,24.838 ; 8.794,-27.33 11.036,-26.036 ; 8.794,-17.67 11.036,-18.964 ; 8.794,-12.33 11.036,-11.036 ; 8.794,-2.67 11.036,-3.964 ; 8.794,2.67 11.036,3.964 ; 8.794,12.33 11.036,11.036 ; 8.794,17.67 11.036,18.964 ; 8.794,27.33 11.036,26.036 ; 8.85,-24.838 9.838,-23.85 ; 8.85,-20.162 9.838,-21.15 ; 8.85,-9.838 9.838,-8.85 ; 8.85,-5.162 9.838,-6.15 ; 8.85,5.162 9.838,6.15 ; 8.85,9.838 9.838,8.85 ; 8.85,20.162 9.838,21.15 ; 8.85,24.838 9.838,23.85 ; 9.838,-23.85 10.2,-22.5 ; 9.838,-21.15 10.2,-22.5 ; 9.838,-8.85 10.2,-7.5 ; 9.838,-6.15 10.2,-7.5 ; 9.838,6.15 10.2,7.5 ; 9.838,8.85 10.2,7.5 ; 9.838,21.15 10.2,22.5 ; 9.838,23.85 10.2,22.5 ; 17.67,-23.794 17.67,-21.206 ; 17.67,-23.794 18.964,-26.036 ; 17.67,-21.206 18.964,-18.964 ; 17.67,-8.794 17.67,-6.206 ; 17.67,-8.794 18.964,-11.036 ; 17.67,-6.206 18.964,-3.964 ; 17.67,6.206 17.67,8.794 ; 17.67,6.206 18.964,3.964 ; 17.67,8.794 18.964,11.036 ; 17.67,21.206 17.67,23.794 ; 17.67,21.206 18.964,18.964 ; 17.67,23.794 18.964,26.036 ; 18.964,-26.036 21.206,-27.33 ; 18.964,-18.964 21.206,-17.67 ; 18.964,-11.036 21.206,-12.33 ; 18.964,-3.964 21.206,-2.67 ; 18.964,3.964 21.206,2.67 ; 18.964,11.036 21.206,12.33 ; 18.964,18.964 21.206,17.67 ; 18.964,26.036 21.206,27.33 ; 19.8,-22.5 20.162,-21.15 ; 19.8,-22.5 20.162,-23.85 ; 19.8,-7.5 20.162,-6.15 ; 19.8,-7.5 20.162,-8.85 ; 19.8,7.5 20.162,8.85 ; 19.8,7.5 20.162,6.15 ; 19.8,22.5 20.162,23.85 ; 19.8,22.5 20.162,21.15 ; 20.162,-23.85 21.15,-24.838 ; 20.162,-21.15 21.15,-20.162 ; 20.162,-8.85 21.15,-9.838 ; 20.162,-6.15 21.15,-5.162 ; 20.162,6.15 21.15,5.162 ; 20.162,8.85 21.15,9.838 ; 20.162,21.15 21.15,20.162 ; 20.162,23.85 21.15,24.838 ; 21.15,-24.838 22.5,-25.2 ; 21.15,-20.162 22.5,-19.8 ; 21.15,-9.838 22.5,-10.2 ; 21.15,-5.162 22.5,-4.8 ; 21.15,5.162 22.5,4.8 ; 21.15,9.838 22.5,10.2 ; 21.15,20.162 22.5,19.8 ; 21.15,24.838 22.5,25.2 ; 21.206,-27.33 23.794,-27.33 ; 21.206,-17.67 23.794,-17.67 ; 21.206,-12.33 23.794,-12.33 ; 21.206,-2.67 23.794,-2.67 ; 21.206,2.67 23.794,2.67 ; 21.206,12.33 23.794,12.33 ; 21.206,17.67 23.794,17.67 ; 21.206,27.33 23.794,27.33 ; 22.5,-25.2 23.85,-24.838 ; 22.5,-19.8 23.85,-20.162 ; 22.5,-10.2 23.85,-9.838 ; 22.5,-4.8 23.85,-5.162 ; 22.5,4.8 23.85,5.162 ; 22.5,10.2 23.85,9.838 ; 22.5,19.8 23.85,20.162 ; 22.5,25.2 23.85,24.838 ; 23.794,-27.33 26.036,-26.036 ; 23.794,-17.67 26.036,-18.964 ; 23.794,-12.33 26.036,-11.036 ; 23.794,-2.67 26.036,-3.964 ; 23.794,2.67 26.036,3.964 ; 23.794,12.33 26.036,11.036 ; 23.794,17.67 26.036,18.964 ; 23.794,27.33 26.036,26.036 ; 23.85,-24.838 24.838,-23.85 ; 23.85,-20.162 24.838,-21.15 ; 23.85,-9.838 24.838,-8.85 ; 23.85,-5.162 24.838,-6.15 ; 23.85,5.162 24.838,6.15 ; 23.85,9.838 24.838,8.85 ; 23.85,20.162 24.838,21.15 ; 23.85,24.838 24.838,23.85 ; 24.838,-23.85 25.2,-22.5 ; 24.838,-21.15 25.2,-22.5 ; 24.838,-8.85 25.2,-7.5 ; 24.838,-6.15 25.2,-7.5 ; 24.838,6.15 25.2,7.5 ; 24.838,8.85 25.2,7.5 ; 24.838,21.15 25.2,22.5 ; 24.838,23.85 25.2,22.5
Top Solder:
  circle w3: c-22.5,-22.5 r3.8
  circle w3: c-7.5,-22.5 r3.8
  circle w3: c7.5,-22.5 r3.8
  circle w3: c22.5,-22.5 r3.8
  circle w3: c-22.5,-7.5 r3.8
  circle w3: c-7.5,-7.5 r3.8
  circle w3: c7.5,-7.5 r3.8
  circle w3: c22.5,-7.5 r3.8
  circle w3: c-22.5,7.5 r3.8
  circle w3: c-7.5,7.5 r3.8
  circle w3: c7.5,7.5 r3.8
  circle w3: c22.5,7.5 r3.8
  circle w3: c-22.5,22.5 r3.8
  circle w3: c-7.5,22.5 r3.8
  circle w3: c7.5,22.5 r3.8
  circle w3: c22.5,22.5 r3.8
Mechanical 14:
  lines w0.127: -30,-15 -30,-30 -15,-30 ; -30,-15 -15,-15 ; -30,-15 -30,0 ; -30,0 -15,0 ; -30,0 -30,15 ; -30,15 -15,15 ; -30,15 -30,30 -15,30 ; -15,-30 0,-30 ; -15,-30 -15,-15 ; -15,-15 0,-15 ; -15,-15 -15,0 ; -15,0 0,0 ; -15,0 -15,15 ; -15,15 0,15 ; -15,15 -15,30 ; -15,30 0,30 ; 0,-30 15,-30 ; 0,-30 0,-15 ; 0,-15 15,-15 ; 0,-15 0,0 ; 0,0 15,0 ; 0,0 0,15 ; 0,15 15,15 ; 0,15 0,30 ; 0,30 15,30 ; 15,-30 30,-30 30,-15 ; 15,-30 15,-15 ; 15,-15 30,-15 ; 15,-15 15,0 ; 15,0 30,0 ; 15,0 15,15 ; 15,15 30,15 ; 15,15 15,30 ; 15,30 30,30 30,15 ; 30,-15 30,0 ; 30,0 30,15
3D body "Adafruit Trellis 3mm.stp": height 10, standoff -3.5, extent -30,-30.127 30,29.873